# Altium integrated library Linear Technology Power Management Power Control.IntLib: 661 symbols (part 17 of 43)
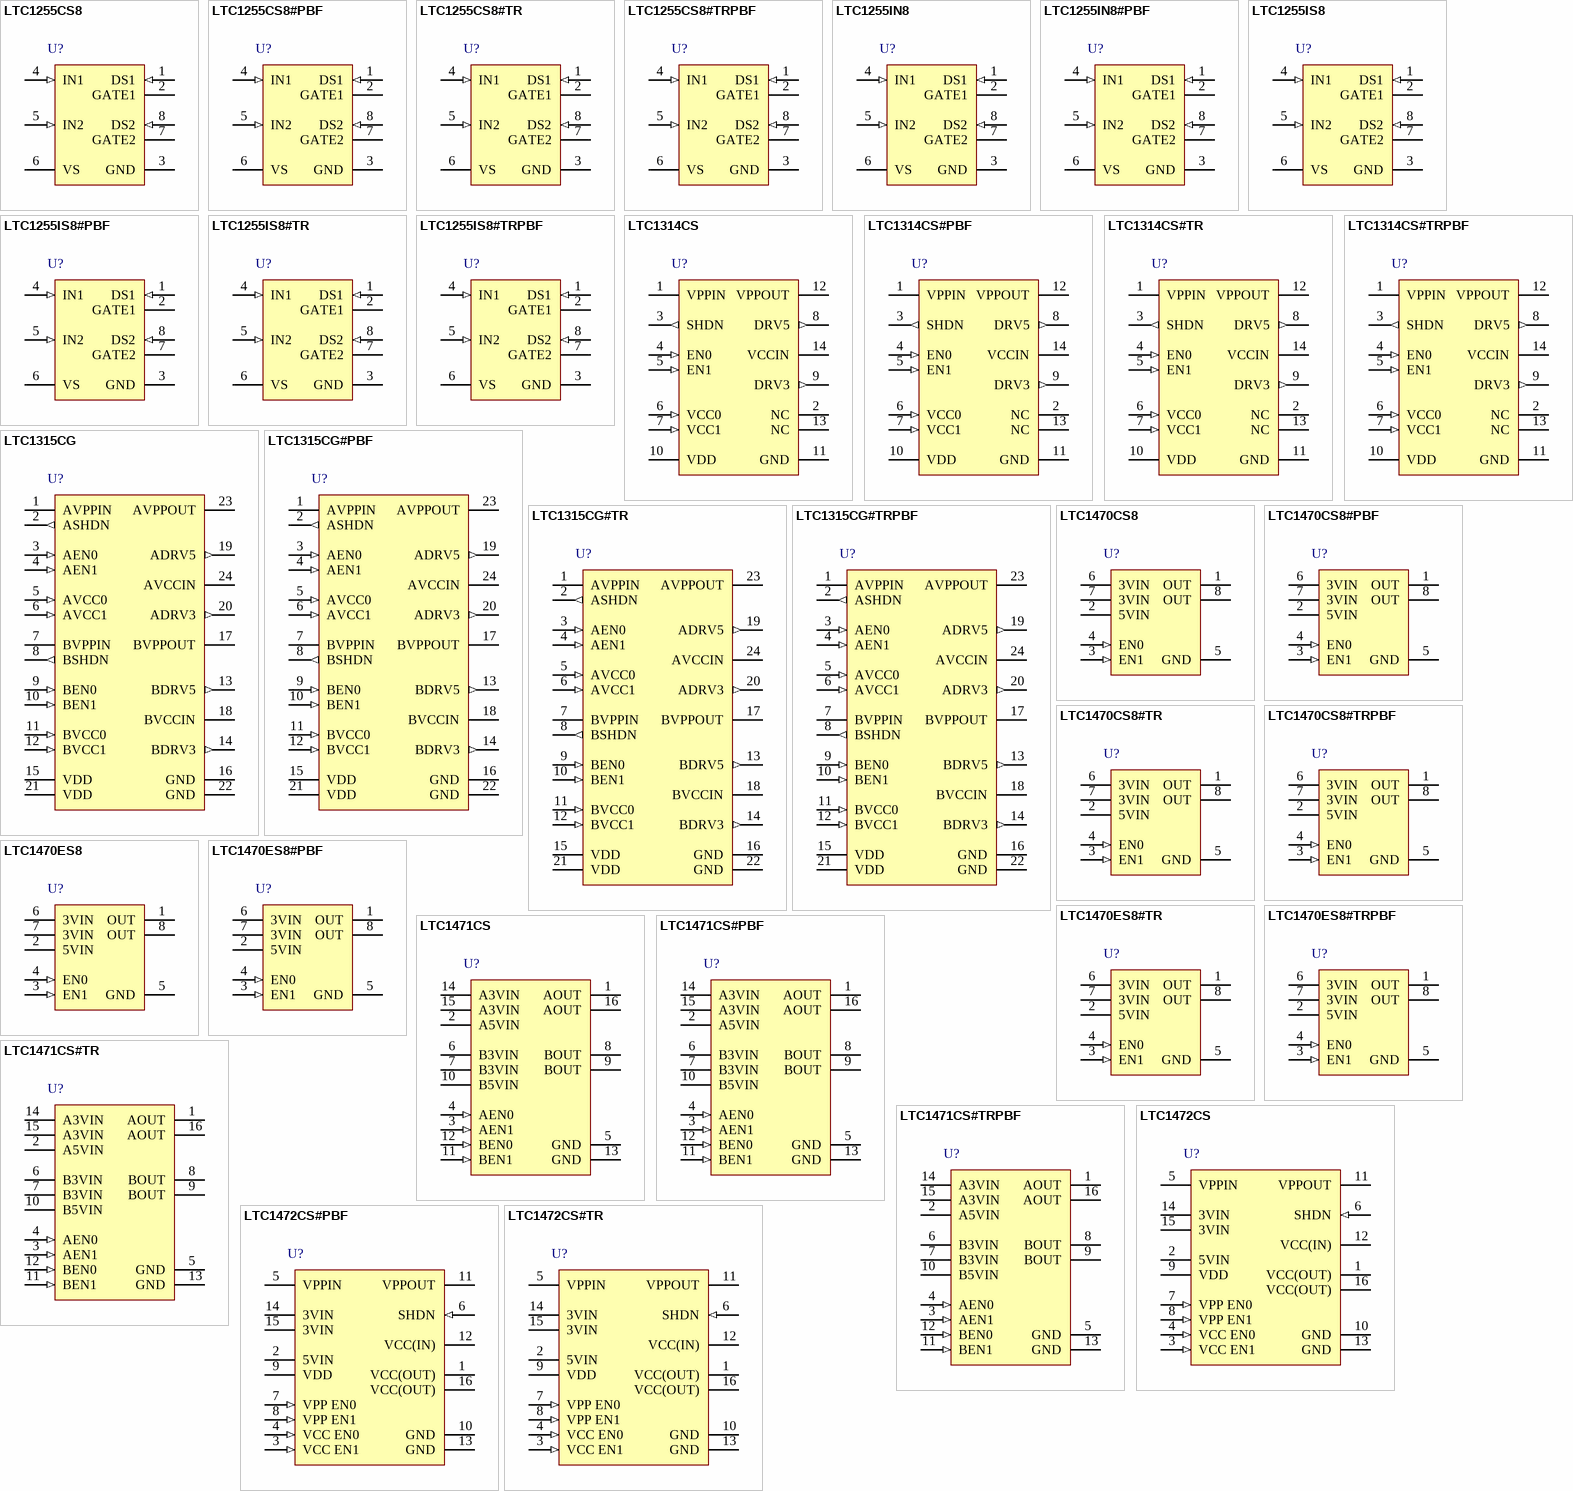
[diagram p35: symbols LTC1255CS8 to LTC1472CS#TR]

## LTC1471CS#TRPBF
designator U?
Fully Integrated VCC Switch with SafeSlot Protection, 2.7 to 5.25 V Vin, 16-pin SOP (S-16), 0 to 70 degC, Pb-Free, Tape and Reel; Manufacturer: Linear Technology; PartNumber: LTC1471CS#TRPBF; DatasheetVersion: Rev. A; PackageVersion: Rev. G, 05/2012; PackageReference: S-16; PackageDescription: 16-Pin Plastic Small Outline, Body 9.9 x 3.9 mm, Pitch 1.27 mm; Supplier 1: Digi-Key; Supplier Part Number 1: LTC1471CS#TRPBF-ND; Supplier 2: Newark; Supplier Part Number 2: 56M1455; Packing: Tape and Reel; RoHS: TRUE; Mounting Technology: Surface Mount; ComponentLink1Description: Manufacturer URL; ComponentLink1URL: http://www.linear.com/; ComponentLink2Description: Datasheet; ComponentLink2URL: http://cds.linear.com/docs/en/datasheet/14701fa.pdf; ComponentLink3Description: Package Specification; ComponentLink3URL: http://cds.linear.com/docs/en/packaging/S16%2005-08-1610%20Rev%20G.pdf
footprint LT-S-16_N (SOP, 16-Leads, Body 10x4mm, Pitch 1.27mm, IPC Medium Density)
footprint LT-S-16_L (SOP, 16-Leads, Body 10x4mm, Pitch 1.27mm, IPC High Density)
footprint LT-S-16_M (SOP, 16-Leads, Body 10x4mm, Pitch 1.27mm, IPC Low Density)
pins: 1 AOUT (power) "Output Pins. The outputs of the LTC1471 are switched between three operating states: OFF, 3.3V and 5V. These pins are protected against accidental short circuits to ground by SafeSlot current limit circuitry which protects (See Datasheet)", 2 A5VIN (power) "5V Input Supply Pins. The 5VIN supply pins serve two purposes. The first purpose is as the power supply input for the 5V NMOS switches. The second purpose is to provide power for the input, gate drive, and protection (See Datasheet)", 3 AEN1 (in) "Enable Inputs. The enable inputs are designed to interface directly with industry standard PCMCIA controllers and are high impedance CMOS gates with ESD protection diodes to ground, and should not be forced above 5VIN or (See Datasheet)", 4 AEN0 (in) "Enable Inputs. The enable inputs are designed to interface directly with industry standard PCMCIA controllers and are high impedance CMOS gates with ESD protection diodes to ground, and should not be forced above 5VIN or (See Datasheet)", 5 GND (power) "Ground Connections.", 6 B3VIN (power) "3V Input Supply Pins. The 3VIN supply pins serve as the power supply input for the 3.3V switches. These pins do not not provide any power to the internal control circuitry, and therefore, do not consume any power when (See Datasheet)", 7 B3VIN (power) "3V Input Supply Pins. The 3VIN supply pins serve as the power supply input for the 3.3V switches. These pins do not not provide any power to the internal control circuitry, and therefore, do not consume any power when (See Datasheet)", 8 BOUT (power) "Output Pins. The outputs of the LTC1471 are switched between three operating states: OFF, 3.3V and 5V. These pins are protected against accidental short circuits to ground by SafeSlot current limit circuitry which protects (See Datasheet)", 9 BOUT (power) "Output Pins. The outputs of the LTC1471 are switched between three operating states: OFF, 3.3V and 5V. These pins are protected against accidental short circuits to ground by SafeSlot current limit circuitry which protects (See Datasheet)", 10 B5VIN (power) "5V Input Supply Pins. The 5VIN supply pins serve two purposes. The first purpose is as the power supply input for the 5V NMOS switches. The second purpose is to provide power for the input, gate drive, and protection (See Datasheet)", 11 BEN1 (in) "Enable Inputs. The enable inputs are designed to interface directly with industry standard PCMCIA controllers and are high impedance CMOS gates with ESD protection diodes to ground, and should not be forced above 5VIN or (See Datasheet)", 12 BEN0 (in) "Enable Inputs. The enable inputs are designed to interface directly with industry standard PCMCIA controllers and are high impedance CMOS gates with ESD protection diodes to ground, and should not be forced above 5VIN or (See Datasheet)", 13 GND (power) "Ground Connections.", 14 A3VIN (power) "3V Input Supply Pins. The 3VIN supply pins serve as the power supply input for the 3.3V switches. These pins do not not provide any power to the internal control circuitry, and therefore, do not consume any power when (See Datasheet)", 15 A3VIN (power) "3V Input Supply Pins. The 3VIN supply pins serve as the power supply input for the 3.3V switches. These pins do not not provide any power to the internal control circuitry, and therefore, do not consume any power when (See Datasheet)", 16 AOUT (power) "Output Pins. The outputs of the LTC1471 are switched between three operating states: OFF, 3.3V and 5V. These pins are protected against accidental short circuits to ground by SafeSlot current limit circuitry which protects (See Datasheet)"

## LTC1472CS
designator U?
Switch Matrix with SafeSlot Protection, 2.7 to 5.25 V Vin, 16-pin SOP (S-16), 0 to 70 degC; Manufacturer: Linear Technology; PartNumber: LTC1472CS; DatasheetVersion: Rev. A; PackageVersion: Rev. G, 05/2012; PackageReference: S-16; PackageDescription: 16-Pin Plastic Small Outline, Body 9.9 x 3.9 mm, Pitch 1.27 mm; Supplier 1: Digi-Key; Supplier Part Number 1: LTC1472CS-ND; Supplier 2: Newark; Supplier Part Number 2: 56M1456; RoHS: FALSE; Mounting Technology: Surface Mount; ComponentLink1Description: Manufacturer URL; ComponentLink1URL: http://www.linear.com/; ComponentLink2Description: Datasheet; ComponentLink2URL: http://cds.linear.com/docs/en/datasheet/1472fa.pdf; ComponentLink3Description: Package Specification; ComponentLink3URL: http://cds.linear.com/docs/en/packaging/S16%2005-08-1610%20Rev%20G.pdf
footprint LT-S-16_N (SOP, 16-Leads, Body 10x4mm, Pitch 1.27mm, IPC Medium Density)
footprint LT-S-16_L (SOP, 16-Leads, Body 10x4mm, Pitch 1.27mm, IPC High Density)
footprint LT-S-16_M (SOP, 16-Leads, Body 10x4mm, Pitch 1.27mm, IPC Low Density)
pins: 1 VCC(OUT) (power) "The VCC output of the LTC1472 is switched between the three operating states: OFF, 3.3V, and 5V. The VPP output is switched between four operating states: 0, VCC, 12V and Hi-Z. Both pins are protected against accidental (See Datasheet)", 2 5VIN (power) "The 5VIN supply pin serves two purposes. The first purpose is as the power supply input for the 5V NMOS switch. The second purpose is to provide power for the input, gate drive and protection circuitry for both the 3.3V and (See Datasheet)", 3 VCC EN1 (in) "The two VCC and two VPP Enable inputs are designed to interface directly with industry standard PCMCIA controllers. They are high impedance CMOS gates with ESD protection diodes to ground, and should not be forced above 5VIN (See Datasheet)", 4 VCC EN0 (in) "The two VCC and two VPP Enable inputs are designed to interface directly with industry standard PCMCIA controllers. They are high impedance CMOS gates with ESD protection diodes to ground, and should not be forced above 5VIN (See Datasheet)", 5 VPPIN (power) "The VPPIN supply pin serves two purposes. The first purpose is to provide power and gate drive for the VPPIN-VPPOUT switch. The second purpose is to provide optional 12V gate drive for the VCC(IN)-VPPOUT switch. If, however, (See Datasheet)", 6 SHDN (in) "The LTC1472 is designed to operate without continuous 12V power. The gates of the VCC NMOS switches are powered by charge pumps from the 5VIN supply, and the gates of the VPP NMOS switches are powered by charge pumps powered (See Datasheet)", 7 VPP EN0 (in) "The two VCC and two VPP Enable inputs are designed to interface directly with industry standard PCMCIA controllers. They are high impedance CMOS gates with ESD protection diodes to ground, and should not be forced above 5VIN (See Datasheet)", 8 VPP EN1 (in) "The two VCC and two VPP Enable inputs are designed to interface directly with industry standard PCMCIA controllers. They are high impedance CMOS gates with ESD protection diodes to ground, and should not be forced above 5VIN (See Datasheet)", 9 VDD (power) "The VDD pin provides power for the input, charge pump and control circuitry for the VPP section of the LTC1472 and therefore must be continuously powered. The standby quiescent current is typically 0.1uA when the VPPOUT pin (See Datasheet)", 10 GND (power), 11 VPPOUT (power) "The VCC output of the LTC1472 is switched between the three operating states: OFF, 3.3V, and 5V. The VPP output is switched between four operating states: 0, VCC, 12V and Hi-Z. Both pins are protected against accidental (See Datasheet)", 12 VCC(IN) (power) "The VCC(IN) supply pin is typically connected directly to the VCC(OUT) pin from the VCC switch section of the LTC1472. It can also be connected directly to a 3.3V or 5V power supply if desired. This supply pin does not (See Datasheet)", 13 GND (power), 14 3VIN (power) "The 3VIN supply pin serves as the power supply input for the 3.3V switch. This pin does not provide any power to the internal control circuitry and therefore does not consume any power when unloaded or turned off.", 15 3VIN (power) "The 3VIN supply pin serves as the power supply input for the 3.3V switch. This pin does not provide any power to the internal control circuitry and therefore does not consume any power when unloaded or turned off.", 16 VCC(OUT) (power) "The VCC output of the LTC1472 is switched between the three operating states: OFF, 3.3V, and 5V. The VPP output is switched between four operating states: 0, VCC, 12V and Hi-Z. Both pins are protected against accidental (See Datasheet)"

## LTC1472CS#PBF
designator U?
Switch Matrix with SafeSlot Protection, 2.7 to 5.25 V Vin, 16-pin SOP (S-16), 0 to 70 degC, Pb-Free; Manufacturer: Linear Technology; PartNumber: LTC1472CS#PBF; DatasheetVersion: Rev. A; PackageVersion: Rev. G, 05/2012; PackageReference: S-16; PackageDescription: 16-Pin Plastic Small Outline, Body 9.9 x 3.9 mm, Pitch 1.27 mm; Supplier 1: Digi-Key; Supplier Part Number 1: LTC1472CS#PBF-ND; Supplier 2: Farnell; Supplier Part Number 2: 1273515; Supplier 3: Newark; Supplier Part Number 3: 56M1457; RoHS: TRUE; Mounting Technology: Surface Mount; ComponentLink1Description: Manufacturer URL; ComponentLink1URL: http://www.linear.com/; ComponentLink2Description: Datasheet; ComponentLink2URL: http://cds.linear.com/docs/en/datasheet/1472fa.pdf; ComponentLink3Description: Package Specification; ComponentLink3URL: http://cds.linear.com/docs/en/packaging/S16%2005-08-1610%20Rev%20G.pdf
footprint LT-S-16_N (SOP, 16-Leads, Body 10x4mm, Pitch 1.27mm, IPC Medium Density)
footprint LT-S-16_L (SOP, 16-Leads, Body 10x4mm, Pitch 1.27mm, IPC High Density)
footprint LT-S-16_M (SOP, 16-Leads, Body 10x4mm, Pitch 1.27mm, IPC Low Density)
pins: 1 VCC(OUT) (power) "The VCC output of the LTC1472 is switched between the three operating states: OFF, 3.3V, and 5V. The VPP output is switched between four operating states: 0, VCC, 12V and Hi-Z. Both pins are protected against accidental (See Datasheet)", 2 5VIN (power) "The 5VIN supply pin serves two purposes. The first purpose is as the power supply input for the 5V NMOS switch. The second purpose is to provide power for the input, gate drive and protection circuitry for both the 3.3V and (See Datasheet)", 3 VCC EN1 (in) "The two VCC and two VPP Enable inputs are designed to interface directly with industry standard PCMCIA controllers. They are high impedance CMOS gates with ESD protection diodes to ground, and should not be forced above 5VIN (See Datasheet)", 4 VCC EN0 (in) "The two VCC and two VPP Enable inputs are designed to interface directly with industry standard PCMCIA controllers. They are high impedance CMOS gates with ESD protection diodes to ground, and should not be forced above 5VIN (See Datasheet)", 5 VPPIN (power) "The VPPIN supply pin serves two purposes. The first purpose is to provide power and gate drive for the VPPIN-VPPOUT switch. The second purpose is to provide optional 12V gate drive for the VCC(IN)-VPPOUT switch. If, however, (See Datasheet)", 6 SHDN (in) "The LTC1472 is designed to operate without continuous 12V power. The gates of the VCC NMOS switches are powered by charge pumps from the 5VIN supply, and the gates of the VPP NMOS switches are powered by charge pumps powered (See Datasheet)", 7 VPP EN0 (in) "The two VCC and two VPP Enable inputs are designed to interface directly with industry standard PCMCIA controllers. They are high impedance CMOS gates with ESD protection diodes to ground, and should not be forced above 5VIN (See Datasheet)", 8 VPP EN1 (in) "The two VCC and two VPP Enable inputs are designed to interface directly with industry standard PCMCIA controllers. They are high impedance CMOS gates with ESD protection diodes to ground, and should not be forced above 5VIN (See Datasheet)", 9 VDD (power) "The VDD pin provides power for the input, charge pump and control circuitry for the VPP section of the LTC1472 and therefore must be continuously powered. The standby quiescent current is typically 0.1uA when the VPPOUT pin (See Datasheet)", 10 GND (power), 11 VPPOUT (power) "The VCC output of the LTC1472 is switched between the three operating states: OFF, 3.3V, and 5V. The VPP output is switched between four operating states: 0, VCC, 12V and Hi-Z. Both pins are protected against accidental (See Datasheet)", 12 VCC(IN) (power) "The VCC(IN) supply pin is typically connected directly to the VCC(OUT) pin from the VCC switch section of the LTC1472. It can also be connected directly to a 3.3V or 5V power supply if desired. This supply pin does not (See Datasheet)", 13 GND (power), 14 3VIN (power) "The 3VIN supply pin serves as the power supply input for the 3.3V switch. This pin does not provide any power to the internal control circuitry and therefore does not consume any power when unloaded or turned off.", 15 3VIN (power) "The 3VIN supply pin serves as the power supply input for the 3.3V switch. This pin does not provide any power to the internal control circuitry and therefore does not consume any power when unloaded or turned off.", 16 VCC(OUT) (power) "The VCC output of the LTC1472 is switched between the three operating states: OFF, 3.3V, and 5V. The VPP output is switched between four operating states: 0, VCC, 12V and Hi-Z. Both pins are protected against accidental (See Datasheet)"

## LTC1472CS#TR
designator U?
Switch Matrix with SafeSlot Protection, 2.7 to 5.25 V Vin, 16-pin SOP (S-16), 0 to 70 degC, Tape and Reel; Manufacturer: Linear Technology; PartNumber: LTC1472CS#TR; DatasheetVersion: Rev. A; PackageVersion: Rev. G, 05/2012; PackageReference: S-16; PackageDescription: 16-Pin Plastic Small Outline, Body 9.9 x 3.9 mm, Pitch 1.27 mm; Supplier 1: Digi-Key; Supplier Part Number 1: LTC1472CS#TR-ND; Supplier 2: Newark; Supplier Part Number 2: 56M1458; Packing: Tape and Reel; RoHS: FALSE; Mounting Technology: Surface Mount; ComponentLink1Description: Manufacturer URL; ComponentLink1URL: http://www.linear.com/; ComponentLink2Description: Datasheet; ComponentLink2URL: http://cds.linear.com/docs/en/datasheet/1472fa.pdf; ComponentLink3Description: Package Specification; ComponentLink3URL: http://cds.linear.com/docs/en/packaging/S16%2005-08-1610%20Rev%20G.pdf
footprint LT-S-16_N (SOP, 16-Leads, Body 10x4mm, Pitch 1.27mm, IPC Medium Density)
footprint LT-S-16_L (SOP, 16-Leads, Body 10x4mm, Pitch 1.27mm, IPC High Density)
footprint LT-S-16_M (SOP, 16-Leads, Body 10x4mm, Pitch 1.27mm, IPC Low Density)
pins: 1 VCC(OUT) (power) "The VCC output of the LTC1472 is switched between the three operating states: OFF, 3.3V, and 5V. The VPP output is switched between four operating states: 0, VCC, 12V and Hi-Z. Both pins are protected against accidental (See Datasheet)", 2 5VIN (power) "The 5VIN supply pin serves two purposes. The first purpose is as the power supply input for the 5V NMOS switch. The second purpose is to provide power for the input, gate drive and protection circuitry for both the 3.3V and (See Datasheet)", 3 VCC EN1 (in) "The two VCC and two VPP Enable inputs are designed to interface directly with industry standard PCMCIA controllers. They are high impedance CMOS gates with ESD protection diodes to ground, and should not be forced above 5VIN (See Datasheet)", 4 VCC EN0 (in) "The two VCC and two VPP Enable inputs are designed to interface directly with industry standard PCMCIA controllers. They are high impedance CMOS gates with ESD protection diodes to ground, and should not be forced above 5VIN (See Datasheet)", 5 VPPIN (power) "The VPPIN supply pin serves two purposes. The first purpose is to provide power and gate drive for the VPPIN-VPPOUT switch. The second purpose is to provide optional 12V gate drive for the VCC(IN)-VPPOUT switch. If, however, (See Datasheet)", 6 SHDN (in) "The LTC1472 is designed to operate without continuous 12V power. The gates of the VCC NMOS switches are powered by charge pumps from the 5VIN supply, and the gates of the VPP NMOS switches are powered by charge pumps powered (See Datasheet)", 7 VPP EN0 (in) "The two VCC and two VPP Enable inputs are designed to interface directly with industry standard PCMCIA controllers. They are high impedance CMOS gates with ESD protection diodes to ground, and should not be forced above 5VIN (See Datasheet)", 8 VPP EN1 (in) "The two VCC and two VPP Enable inputs are designed to interface directly with industry standard PCMCIA controllers. They are high impedance CMOS gates with ESD protection diodes to ground, and should not be forced above 5VIN (See Datasheet)", 9 VDD (power) "The VDD pin provides power for the input, charge pump and control circuitry for the VPP section of the LTC1472 and therefore must be continuously powered. The standby quiescent current is typically 0.1uA when the VPPOUT pin (See Datasheet)", 10 GND (power), 11 VPPOUT (power) "The VCC output of the LTC1472 is switched between the three operating states: OFF, 3.3V, and 5V. The VPP output is switched between four operating states: 0, VCC, 12V and Hi-Z. Both pins are protected against accidental (See Datasheet)", 12 VCC(IN) (power) "The VCC(IN) supply pin is typically connected directly to the VCC(OUT) pin from the VCC switch section of the LTC1472. It can also be connected directly to a 3.3V or 5V power supply if desired. This supply pin does not (See Datasheet)", 13 GND (power), 14 3VIN (power) "The 3VIN supply pin serves as the power supply input for the 3.3V switch. This pin does not provide any power to the internal control circuitry and therefore does not consume any power when unloaded or turned off.", 15 3VIN (power) "The 3VIN supply pin serves as the power supply input for the 3.3V switch. This pin does not provide any power to the internal control circuitry and therefore does not consume any power when unloaded or turned off.", 16 VCC(OUT) (power) "The VCC output of the LTC1472 is switched between the three operating states: OFF, 3.3V, and 5V. The VPP output is switched between four operating states: 0, VCC, 12V and Hi-Z. Both pins are protected against accidental (See Datasheet)"

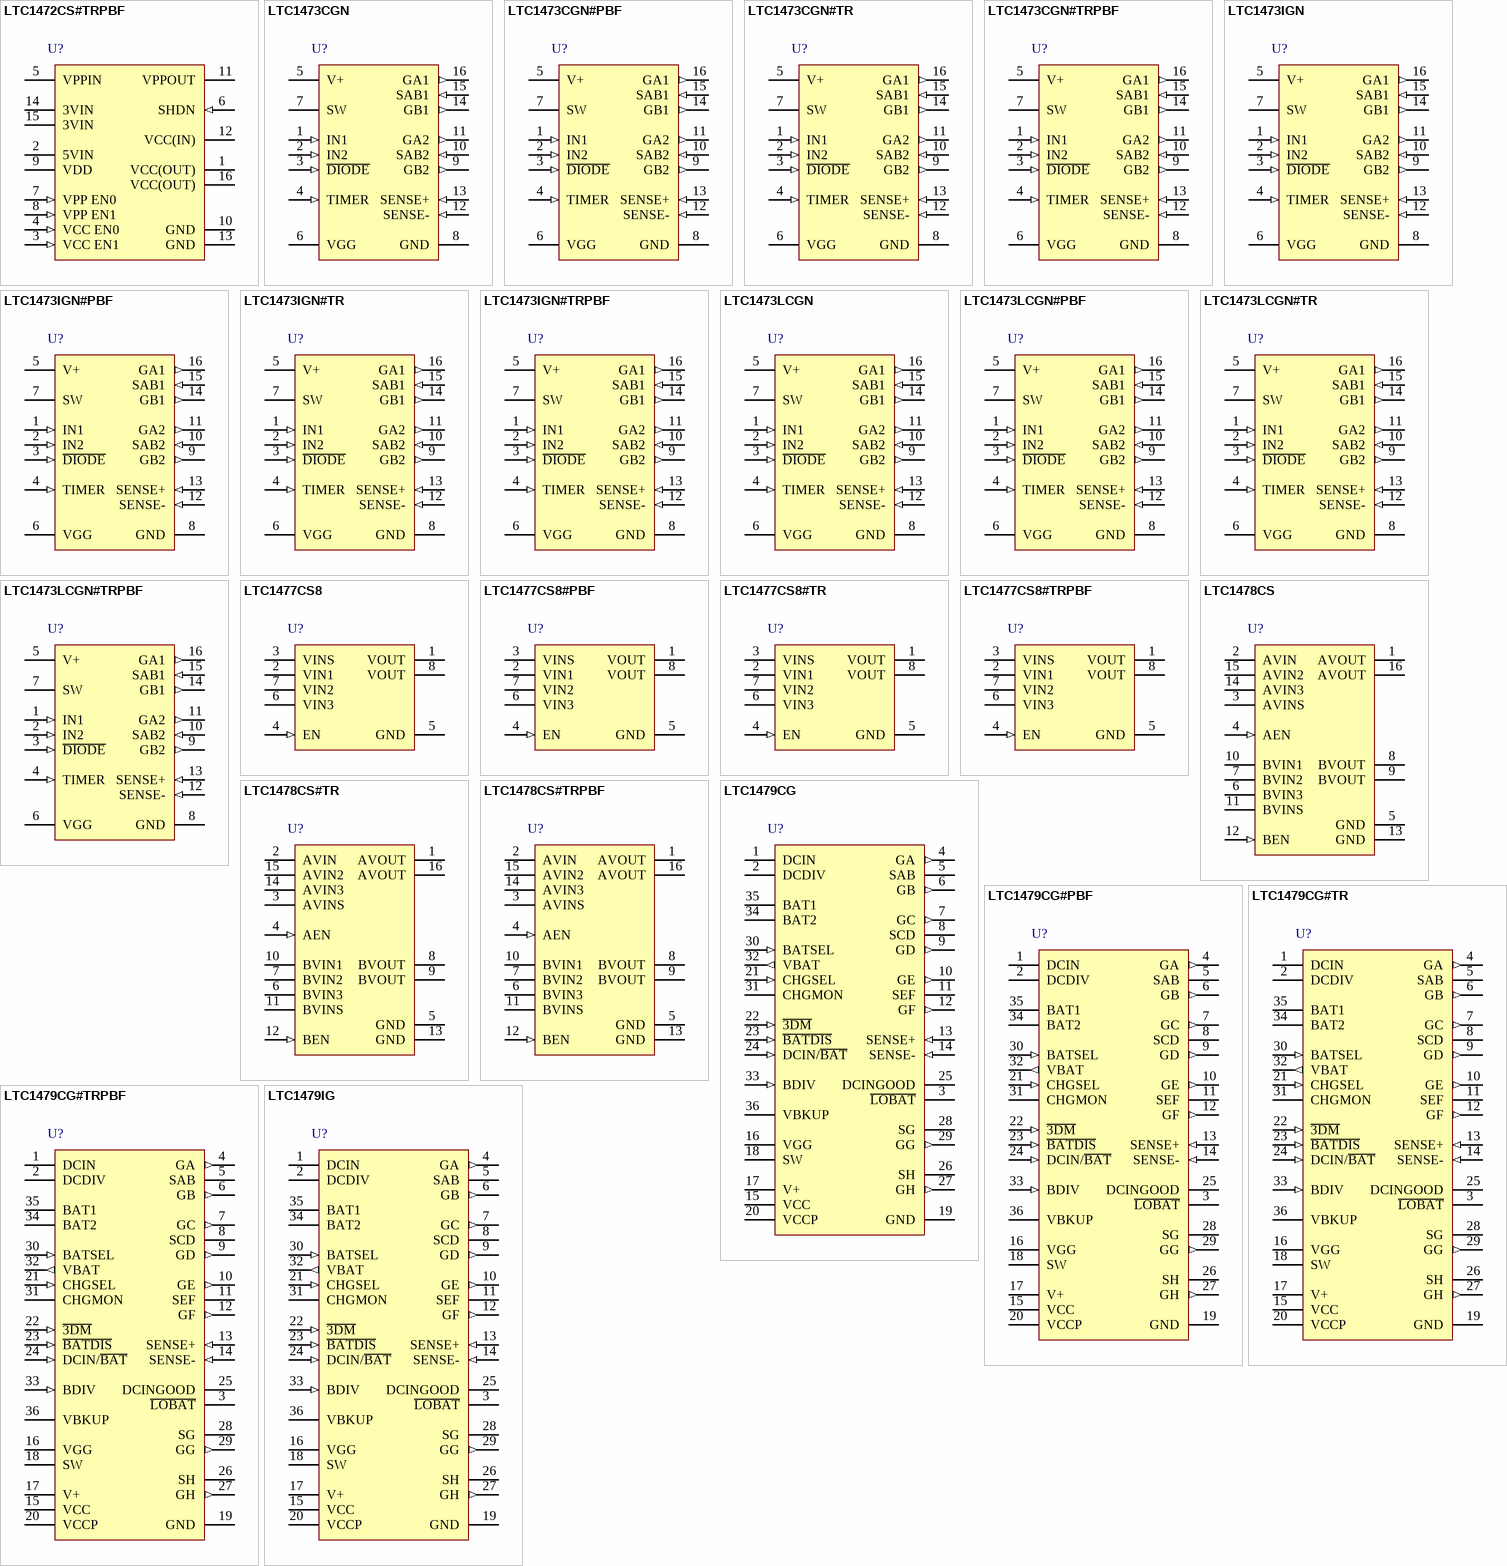
[diagram p8: symbols LTC1472CS#TRPBF to LTC1479IG]

## LTC1472CS#TRPBF
designator U?
Switch Matrix with SafeSlot Protection, 2.7 to 5.25 V Vin, 16-pin SOP (S-16), 0 to 70 degC, Pb-Free, Tape and Reel; Manufacturer: Linear Technology; PartNumber: LTC1472CS#TRPBF; DatasheetVersion: Rev. A; PackageVersion: Rev. G, 05/2012; PackageReference: S-16; PackageDescription: 16-Pin Plastic Small Outline, Body 9.9 x 3.9 mm, Pitch 1.27 mm; Supplier 1: Digi-Key; Supplier Part Number 1: LTC1472CS#TRPBF-ND; Supplier 2: Newark; Supplier Part Number 2: 56M1459; Packing: Tape and Reel; RoHS: TRUE; Mounting Technology: Surface Mount; ComponentLink1Description: Manufacturer URL; ComponentLink1URL: http://www.linear.com/; ComponentLink2Description: Datasheet; ComponentLink2URL: http://cds.linear.com/docs/en/datasheet/1472fa.pdf; ComponentLink3Description: Package Specification; ComponentLink3URL: http://cds.linear.com/docs/en/packaging/S16%2005-08-1610%20Rev%20G.pdf
footprint LT-S-16_N (SOP, 16-Leads, Body 10x4mm, Pitch 1.27mm, IPC Medium Density)
footprint LT-S-16_L (SOP, 16-Leads, Body 10x4mm, Pitch 1.27mm, IPC High Density)
footprint LT-S-16_M (SOP, 16-Leads, Body 10x4mm, Pitch 1.27mm, IPC Low Density)
pins: 1 VCC(OUT) (power) "The VCC output of the LTC1472 is switched between the three operating states: OFF, 3.3V, and 5V. The VPP output is switched between four operating states: 0, VCC, 12V and Hi-Z. Both pins are protected against accidental (See Datasheet)", 2 5VIN (power) "The 5VIN supply pin serves two purposes. The first purpose is as the power supply input for the 5V NMOS switch. The second purpose is to provide power for the input, gate drive and protection circuitry for both the 3.3V and (See Datasheet)", 3 VCC EN1 (in) "The two VCC and two VPP Enable inputs are designed to interface directly with industry standard PCMCIA controllers. They are high impedance CMOS gates with ESD protection diodes to ground, and should not be forced above 5VIN (See Datasheet)", 4 VCC EN0 (in) "The two VCC and two VPP Enable inputs are designed to interface directly with industry standard PCMCIA controllers. They are high impedance CMOS gates with ESD protection diodes to ground, and should not be forced above 5VIN (See Datasheet)", 5 VPPIN (power) "The VPPIN supply pin serves two purposes. The first purpose is to provide power and gate drive for the VPPIN-VPPOUT switch. The second purpose is to provide optional 12V gate drive for the VCC(IN)-VPPOUT switch. If, however, (See Datasheet)", 6 SHDN (in) "The LTC1472 is designed to operate without continuous 12V power. The gates of the VCC NMOS switches are powered by charge pumps from the 5VIN supply, and the gates of the VPP NMOS switches are powered by charge pumps powered (See Datasheet)", 7 VPP EN0 (in) "The two VCC and two VPP Enable inputs are designed to interface directly with industry standard PCMCIA controllers. They are high impedance CMOS gates with ESD protection diodes to ground, and should not be forced above 5VIN (See Datasheet)", 8 VPP EN1 (in) "The two VCC and two VPP Enable inputs are designed to interface directly with industry standard PCMCIA controllers. They are high impedance CMOS gates with ESD protection diodes to ground, and should not be forced above 5VIN (See Datasheet)", 9 VDD (power) "The VDD pin provides power for the input, charge pump and control circuitry for the VPP section of the LTC1472 and therefore must be continuously powered. The standby quiescent current is typically 0.1uA when the VPPOUT pin (See Datasheet)", 10 GND (power), 11 VPPOUT (power) "The VCC output of the LTC1472 is switched between the three operating states: OFF, 3.3V, and 5V. The VPP output is switched between four operating states: 0, VCC, 12V and Hi-Z. Both pins are protected against accidental (See Datasheet)", 12 VCC(IN) (power) "The VCC(IN) supply pin is typically connected directly to the VCC(OUT) pin from the VCC switch section of the LTC1472. It can also be connected directly to a 3.3V or 5V power supply if desired. This supply pin does not (See Datasheet)", 13 GND (power), 14 3VIN (power) "The 3VIN supply pin serves as the power supply input for the 3.3V switch. This pin does not provide any power to the internal control circuitry and therefore does not consume any power when unloaded or turned off.", 15 3VIN (power) "The 3VIN supply pin serves as the power supply input for the 3.3V switch. This pin does not provide any power to the internal control circuitry and therefore does not consume any power when unloaded or turned off.", 16 VCC(OUT) (power) "The VCC output of the LTC1472 is switched between the three operating states: OFF, 3.3V, and 5V. The VPP output is switched between four operating states: 0, VCC, 12V and Hi-Z. Both pins are protected against accidental (See Datasheet)"

## LTC1473CGN
designator U?
Dual, High Gate Drive, 4.75 to 30 V Vin, 16-pin SOP (GN-16), 0 to 70 degC; Manufacturer: Linear Technology; PartNumber: LTC1473CGN; Ideal Diode: Dual, External, N-Channel; DatasheetVersion: Rev. A; PackageVersion: Rev. B, 03/2012; PackageReference: GN-16; PackageDescription: 16-Pin Plastic SSOP, Body 4.9 x 3.9 mm, Pitch 0.635 mm; Supplier 1: Digi-Key; Supplier Part Number 1: LTC1473CGN-ND; Supplier 2: Newark; Supplier Part Number 2: 56M1460; RoHS: FALSE; Mounting Technology: Surface Mount; ComponentLink1Description: Manufacturer URL; ComponentLink1URL: http://www.linear.com/; ComponentLink2Description: Datasheet; ComponentLink2URL: http://cds.linear.com/docs/en/datasheet/1473fas.pdf; ComponentLink3Description: Package Specification; ComponentLink3URL: http://cds.linear.com/docs/en/packaging/05081641_B_GN16.pdf
footprint LT-GN-16_N (SOP, 16-Leads, Body 5x4mm, Pitch 0.635mm, IPC Medium Density)
footprint LT-GN-16_L (SOP, 16-Leads, Body 5x4mm, Pitch 0.635mm, IPC High Density)
footprint LT-GN-16_M (SOP, 16-Leads, Body 5x4mm, Pitch 0.635mm, IPC Low Density)
pins: 1 IN1 (in) "Logic Input of Gate Drivers GA1 and GB1. IN1 is disabled when IN2 is high or D\I\O\D\E\ is low.", 2 IN2 (in) "Logic Input of Gate Drivers GA2 and GB2. IN2 is disabled when IN1 is high or D\I\O\D\E\ is low.", 3 ~{DIODE} (in) ""2-Diode Mode" Logic Input. D\I\O\D\E\ overrides IN1 and IN2 by forcing the two back-to-back external N-channel MOSFET switches to mimic two diodes.", 4 TIMER (in) "Fault Timer. A capacitor connected from this pin to GND programs the time the MOSFET switches are allowed to be in current limit. To disable this function, Pin 4 can be grounded.", 5 V+ (power) "Power Supply. Bypass this pin with at least a 1uF capacitor.", 6 VGG (power) "Gate Driver Supply. This high voltage supply is intended only for driving the internal micropower gate drive circuitry. Do not load this pin with any external circuitry. Bypass this pin with at least 1uF.", 7 SW "Open Drain of an Internal N-Channel MOSFET Switch. This pin drives the bottom of the VGG switching regulator inductor which is connected between this pin and the V+ pin.", 8 GND (power) "Ground.", 9 GB2 (out) "Switch Gate Drivers. GA2 and GB2 drive the gates of the second back-to-back external N-channel switches.", 10 SAB2 (in) "Source Return. The SAB2 pin is connected to the sources of SW A2 and SW B2. A small pull-down current source returns this node to 0V when the switches are turned off.", 11 GA2 (out) "Switch Gate Drivers. GA2 and GB2 drive the gates of the second back-to-back external N-channel switches.", 12 SENSE- (in) "Inrush Current Input. This pin should be connected directly to the bottom (output side) of the low valued resistor in series with the two input power selector switch pairs, SW A1/B1 and SW A2/B2, for detecting and (See Datasheet)", 13 SENSE+ (in) "Inrush Current Input. This pin should be connected directly to the top (switch side) of the low valued resistor in series with the two input power selector switch pairs, SW A1/B1 and SW A2/B2, for detecting and controlling (See Datasheet)", 14 GB1 (out) "Switch Gate Drivers. GA1 and GB1 drive the gates of the first back-to-back external N-channel switches.", 15 SAB1 (in) "Source Return. The SAB1 pin is connected to the sources of SW A1 and SW B1. A small pull-down current source returns this node to 0V when the switches are turned off.", 16 GA1 (out) "Switch Gate Drivers. GA1 and GB1 drive the gates of the first back-to-back external N-channel switches."

## LTC1473CGN#PBF
designator U?
Dual, High Gate Drive, 4.75 to 30 V Vin, 16-pin SOP (GN-16), 0 to 70 degC, Pb-Free; Manufacturer: Linear Technology; PartNumber: LTC1473CGN#PBF; Ideal Diode: Dual, External, N-Channel; DatasheetVersion: Rev. A; PackageVersion: Rev. B, 03/2012; PackageReference: GN-16; PackageDescription: 16-Pin Plastic SSOP, Body 4.9 x 3.9 mm, Pitch 0.635 mm; Supplier 1: Digi-Key; Supplier Part Number 1: LTC1473CGN#PBF-ND; Supplier 2: Farnell; Supplier Part Number 2: 1273517; Supplier 3: Newark; Supplier Part Number 3: 56M1461; RoHS: TRUE; Mounting Technology: Surface Mount; ComponentLink1Description: Manufacturer URL; ComponentLink1URL: http://www.linear.com/; ComponentLink2Description: Datasheet; ComponentLink2URL: http://cds.linear.com/docs/en/datasheet/1473fas.pdf; ComponentLink3Description: Package Specification; ComponentLink3URL: http://cds.linear.com/docs/en/packaging/05081641_B_GN16.pdf
footprint LT-GN-16_N (SOP, 16-Leads, Body 5x4mm, Pitch 0.635mm, IPC Medium Density)
footprint LT-GN-16_L (SOP, 16-Leads, Body 5x4mm, Pitch 0.635mm, IPC High Density)
footprint LT-GN-16_M (SOP, 16-Leads, Body 5x4mm, Pitch 0.635mm, IPC Low Density)
pins: 1 IN1 (in) "Logic Input of Gate Drivers GA1 and GB1. IN1 is disabled when IN2 is high or D\I\O\D\E\ is low.", 2 IN2 (in) "Logic Input of Gate Drivers GA2 and GB2. IN2 is disabled when IN1 is high or D\I\O\D\E\ is low.", 3 ~{DIODE} (in) ""2-Diode Mode" Logic Input. D\I\O\D\E\ overrides IN1 and IN2 by forcing the two back-to-back external N-channel MOSFET switches to mimic two diodes.", 4 TIMER (in) "Fault Timer. A capacitor connected from this pin to GND programs the time the MOSFET switches are allowed to be in current limit. To disable this function, Pin 4 can be grounded.", 5 V+ (power) "Power Supply. Bypass this pin with at least a 1uF capacitor.", 6 VGG (power) "Gate Driver Supply. This high voltage supply is intended only for driving the internal micropower gate drive circuitry. Do not load this pin with any external circuitry. Bypass this pin with at least 1uF.", 7 SW "Open Drain of an Internal N-Channel MOSFET Switch. This pin drives the bottom of the VGG switching regulator inductor which is connected between this pin and the V+ pin.", 8 GND (power) "Ground.", 9 GB2 (out) "Switch Gate Drivers. GA2 and GB2 drive the gates of the second back-to-back external N-channel switches.", 10 SAB2 (in) "Source Return. The SAB2 pin is connected to the sources of SW A2 and SW B2. A small pull-down current source returns this node to 0V when the switches are turned off.", 11 GA2 (out) "Switch Gate Drivers. GA2 and GB2 drive the gates of the second back-to-back external N-channel switches.", 12 SENSE- (in) "Inrush Current Input. This pin should be connected directly to the bottom (output side) of the low valued resistor in series with the two input power selector switch pairs, SW A1/B1 and SW A2/B2, for detecting and (See Datasheet)", 13 SENSE+ (in) "Inrush Current Input. This pin should be connected directly to the top (switch side) of the low valued resistor in series with the two input power selector switch pairs, SW A1/B1 and SW A2/B2, for detecting and controlling (See Datasheet)", 14 GB1 (out) "Switch Gate Drivers. GA1 and GB1 drive the gates of the first back-to-back external N-channel switches.", 15 SAB1 (in) "Source Return. The SAB1 pin is connected to the sources of SW A1 and SW B1. A small pull-down current source returns this node to 0V when the switches are turned off.", 16 GA1 (out) "Switch Gate Drivers. GA1 and GB1 drive the gates of the first back-to-back external N-channel switches."

## LTC1473CGN#TR
designator U?
Dual, High Gate Drive, 4.75 to 30 V Vin, 16-pin SOP (GN-16), 0 to 70 degC, Tape and Reel; Manufacturer: Linear Technology; PartNumber: LTC1473CGN#TR; Ideal Diode: Dual, External, N-Channel; DatasheetVersion: Rev. A; PackageVersion: Rev. B, 03/2012; PackageReference: GN-16; PackageDescription: 16-Pin Plastic SSOP, Body 4.9 x 3.9 mm, Pitch 0.635 mm; Supplier 1: Digi-Key; Supplier Part Number 1: LTC1473CGN#TR-ND; Packing: Tape and Reel; RoHS: FALSE; Mounting Technology: Surface Mount; ComponentLink1Description: Manufacturer URL; ComponentLink1URL: http://www.linear.com/; ComponentLink2Description: Datasheet; ComponentLink2URL: http://cds.linear.com/docs/en/datasheet/1473fas.pdf; ComponentLink3Description: Package Specification; ComponentLink3URL: http://cds.linear.com/docs/en/packaging/05081641_B_GN16.pdf
footprint LT-GN-16_N (SOP, 16-Leads, Body 5x4mm, Pitch 0.635mm, IPC Medium Density)
footprint LT-GN-16_L (SOP, 16-Leads, Body 5x4mm, Pitch 0.635mm, IPC High Density)
footprint LT-GN-16_M (SOP, 16-Leads, Body 5x4mm, Pitch 0.635mm, IPC Low Density)
pins: 1 IN1 (in) "Logic Input of Gate Drivers GA1 and GB1. IN1 is disabled when IN2 is high or D\I\O\D\E\ is low.", 2 IN2 (in) "Logic Input of Gate Drivers GA2 and GB2. IN2 is disabled when IN1 is high or D\I\O\D\E\ is low.", 3 ~{DIODE} (in) ""2-Diode Mode" Logic Input. D\I\O\D\E\ overrides IN1 and IN2 by forcing the two back-to-back external N-channel MOSFET switches to mimic two diodes.", 4 TIMER (in) "Fault Timer. A capacitor connected from this pin to GND programs the time the MOSFET switches are allowed to be in current limit. To disable this function, Pin 4 can be grounded.", 5 V+ (power) "Power Supply. Bypass this pin with at least a 1uF capacitor.", 6 VGG (power) "Gate Driver Supply. This high voltage supply is intended only for driving the internal micropower gate drive circuitry. Do not load this pin with any external circuitry. Bypass this pin with at least 1uF.", 7 SW "Open Drain of an Internal N-Channel MOSFET Switch. This pin drives the bottom of the VGG switching regulator inductor which is connected between this pin and the V+ pin.", 8 GND (power) "Ground.", 9 GB2 (out) "Switch Gate Drivers. GA2 and GB2 drive the gates of the second back-to-back external N-channel switches.", 10 SAB2 (in) "Source Return. The SAB2 pin is connected to the sources of SW A2 and SW B2. A small pull-down current source returns this node to 0V when the switches are turned off.", 11 GA2 (out) "Switch Gate Drivers. GA2 and GB2 drive the gates of the second back-to-back external N-channel switches.", 12 SENSE- (in) "Inrush Current Input. This pin should be connected directly to the bottom (output side) of the low valued resistor in series with the two input power selector switch pairs, SW A1/B1 and SW A2/B2, for detecting and (See Datasheet)", 13 SENSE+ (in) "Inrush Current Input. This pin should be connected directly to the top (switch side) of the low valued resistor in series with the two input power selector switch pairs, SW A1/B1 and SW A2/B2, for detecting and controlling (See Datasheet)", 14 GB1 (out) "Switch Gate Drivers. GA1 and GB1 drive the gates of the first back-to-back external N-channel switches.", 15 SAB1 (in) "Source Return. The SAB1 pin is connected to the sources of SW A1 and SW B1. A small pull-down current source returns this node to 0V when the switches are turned off.", 16 GA1 (out) "Switch Gate Drivers. GA1 and GB1 drive the gates of the first back-to-back external N-channel switches."

## LTC1473CGN#TRPBF
designator U?
Dual, High Gate Drive, 4.75 to 30 V Vin, 16-pin SOP (GN-16), 0 to 70 degC, Pb-Free, Tape and Reel; Manufacturer: Linear Technology; PartNumber: LTC1473CGN#TRPBF; Ideal Diode: Dual, External, N-Channel; DatasheetVersion: Rev. A; PackageVersion: Rev. B, 03/2012; PackageReference: GN-16; PackageDescription: 16-Pin Plastic SSOP, Body 4.9 x 3.9 mm, Pitch 0.635 mm; Supplier 1: Digi-Key; Supplier Part Number 1: LTC1473CGN#TRPBF-ND; Supplier 2: Newark; Supplier Part Number 2: 56M1463; Packing: Tape and Reel; RoHS: TRUE; Mounting Technology: Surface Mount; ComponentLink1Description: Manufacturer URL; ComponentLink1URL: http://www.linear.com/; ComponentLink2Description: Datasheet; ComponentLink2URL: http://cds.linear.com/docs/en/datasheet/1473fas.pdf; ComponentLink3Description: Package Specification; ComponentLink3URL: http://cds.linear.com/docs/en/packaging/05081641_B_GN16.pdf
footprint LT-GN-16_N (SOP, 16-Leads, Body 5x4mm, Pitch 0.635mm, IPC Medium Density)
footprint LT-GN-16_L (SOP, 16-Leads, Body 5x4mm, Pitch 0.635mm, IPC High Density)
footprint LT-GN-16_M (SOP, 16-Leads, Body 5x4mm, Pitch 0.635mm, IPC Low Density)
pins: 1 IN1 (in) "Logic Input of Gate Drivers GA1 and GB1. IN1 is disabled when IN2 is high or D\I\O\D\E\ is low.", 2 IN2 (in) "Logic Input of Gate Drivers GA2 and GB2. IN2 is disabled when IN1 is high or D\I\O\D\E\ is low.", 3 ~{DIODE} (in) ""2-Diode Mode" Logic Input. D\I\O\D\E\ overrides IN1 and IN2 by forcing the two back-to-back external N-channel MOSFET switches to mimic two diodes.", 4 TIMER (in) "Fault Timer. A capacitor connected from this pin to GND programs the time the MOSFET switches are allowed to be in current limit. To disable this function, Pin 4 can be grounded.", 5 V+ (power) "Power Supply. Bypass this pin with at least a 1uF capacitor.", 6 VGG (power) "Gate Driver Supply. This high voltage supply is intended only for driving the internal micropower gate drive circuitry. Do not load this pin with any external circuitry. Bypass this pin with at least 1uF.", 7 SW "Open Drain of an Internal N-Channel MOSFET Switch. This pin drives the bottom of the VGG switching regulator inductor which is connected between this pin and the V+ pin.", 8 GND (power) "Ground.", 9 GB2 (out) "Switch Gate Drivers. GA2 and GB2 drive the gates of the second back-to-back external N-channel switches.", 10 SAB2 (in) "Source Return. The SAB2 pin is connected to the sources of SW A2 and SW B2. A small pull-down current source returns this node to 0V when the switches are turned off.", 11 GA2 (out) "Switch Gate Drivers. GA2 and GB2 drive the gates of the second back-to-back external N-channel switches.", 12 SENSE- (in) "Inrush Current Input. This pin should be connected directly to the bottom (output side) of the low valued resistor in series with the two input power selector switch pairs, SW A1/B1 and SW A2/B2, for detecting and (See Datasheet)", 13 SENSE+ (in) "Inrush Current Input. This pin should be connected directly to the top (switch side) of the low valued resistor in series with the two input power selector switch pairs, SW A1/B1 and SW A2/B2, for detecting and controlling (See Datasheet)", 14 GB1 (out) "Switch Gate Drivers. GA1 and GB1 drive the gates of the first back-to-back external N-channel switches.", 15 SAB1 (in) "Source Return. The SAB1 pin is connected to the sources of SW A1 and SW B1. A small pull-down current source returns this node to 0V when the switches are turned off.", 16 GA1 (out) "Switch Gate Drivers. GA1 and GB1 drive the gates of the first back-to-back external N-channel switches."

## LTC1473IGN
designator U?
Dual, High Gate Drive, 4.75 to 30 V Vin, 16-pin SOP (GN-16), -40 to 85 degC; Manufacturer: Linear Technology; PartNumber: LTC1473IGN; Ideal Diode: Dual, External, N-Channel; DatasheetVersion: Rev. A; PackageVersion: Rev. B, 03/2012; PackageReference: GN-16; PackageDescription: 16-Pin Plastic SSOP, Body 4.9 x 3.9 mm, Pitch 0.635 mm; Supplier 1: Digi-Key; Supplier Part Number 1: LTC1473IGN-ND; RoHS: FALSE; Mounting Technology: Surface Mount; ComponentLink1Description: Manufacturer URL; ComponentLink1URL: http://www.linear.com/; ComponentLink2Description: Datasheet; ComponentLink2URL: http://cds.linear.com/docs/en/datasheet/1473fas.pdf; ComponentLink3Description: Package Specification; ComponentLink3URL: http://cds.linear.com/docs/en/packaging/05081641_B_GN16.pdf
footprint LT-GN-16_N (SOP, 16-Leads, Body 5x4mm, Pitch 0.635mm, IPC Medium Density)
footprint LT-GN-16_L (SOP, 16-Leads, Body 5x4mm, Pitch 0.635mm, IPC High Density)
footprint LT-GN-16_M (SOP, 16-Leads, Body 5x4mm, Pitch 0.635mm, IPC Low Density)
pins: 1 IN1 (in) "Logic Input of Gate Drivers GA1 and GB1. IN1 is disabled when IN2 is high or D\I\O\D\E\ is low.", 2 IN2 (in) "Logic Input of Gate Drivers GA2 and GB2. IN2 is disabled when IN1 is high or D\I\O\D\E\ is low.", 3 ~{DIODE} (in) ""2-Diode Mode" Logic Input. D\I\O\D\E\ overrides IN1 and IN2 by forcing the two back-to-back external N-channel MOSFET switches to mimic two diodes.", 4 TIMER (in) "Fault Timer. A capacitor connected from this pin to GND programs the time the MOSFET switches are allowed to be in current limit. To disable this function, Pin 4 can be grounded.", 5 V+ (power) "Power Supply. Bypass this pin with at least a 1uF capacitor.", 6 VGG (power) "Gate Driver Supply. This high voltage supply is intended only for driving the internal micropower gate drive circuitry. Do not load this pin with any external circuitry. Bypass this pin with at least 1uF.", 7 SW "Open Drain of an Internal N-Channel MOSFET Switch. This pin drives the bottom of the VGG switching regulator inductor which is connected between this pin and the V+ pin.", 8 GND (power) "Ground.", 9 GB2 (out) "Switch Gate Drivers. GA2 and GB2 drive the gates of the second back-to-back external N-channel switches.", 10 SAB2 (in) "Source Return. The SAB2 pin is connected to the sources of SW A2 and SW B2. A small pull-down current source returns this node to 0V when the switches are turned off.", 11 GA2 (out) "Switch Gate Drivers. GA2 and GB2 drive the gates of the second back-to-back external N-channel switches.", 12 SENSE- (in) "Inrush Current Input. This pin should be connected directly to the bottom (output side) of the low valued resistor in series with the two input power selector switch pairs, SW A1/B1 and SW A2/B2, for detecting and (See Datasheet)", 13 SENSE+ (in) "Inrush Current Input. This pin should be connected directly to the top (switch side) of the low valued resistor in series with the two input power selector switch pairs, SW A1/B1 and SW A2/B2, for detecting and controlling (See Datasheet)", 14 GB1 (out) "Switch Gate Drivers. GA1 and GB1 drive the gates of the first back-to-back external N-channel switches.", 15 SAB1 (in) "Source Return. The SAB1 pin is connected to the sources of SW A1 and SW B1. A small pull-down current source returns this node to 0V when the switches are turned off.", 16 GA1 (out) "Switch Gate Drivers. GA1 and GB1 drive the gates of the first back-to-back external N-channel switches."

## LTC1473IGN#PBF
designator U?
Dual, High Gate Drive, 4.75 to 30 V Vin, 16-pin SOP (GN-16), -40 to 85 degC, Pb-Free; Manufacturer: Linear Technology; PartNumber: LTC1473IGN#PBF; Ideal Diode: Dual, External, N-Channel; DatasheetVersion: Rev. A; PackageVersion: Rev. B, 03/2012; PackageReference: GN-16; PackageDescription: 16-Pin Plastic SSOP, Body 4.9 x 3.9 mm, Pitch 0.635 mm; Supplier 1: Digi-Key; Supplier Part Number 1: LTC1473IGN#PBF-ND; Supplier 2: Newark; Supplier Part Number 2: 56M1465; RoHS: TRUE; Mounting Technology: Surface Mount; ComponentLink1Description: Manufacturer URL; ComponentLink1URL: http://www.linear.com/; ComponentLink2Description: Datasheet; ComponentLink2URL: http://cds.linear.com/docs/en/datasheet/1473fas.pdf; ComponentLink3Description: Package Specification; ComponentLink3URL: http://cds.linear.com/docs/en/packaging/05081641_B_GN16.pdf
footprint LT-GN-16_N (SOP, 16-Leads, Body 5x4mm, Pitch 0.635mm, IPC Medium Density)
footprint LT-GN-16_L (SOP, 16-Leads, Body 5x4mm, Pitch 0.635mm, IPC High Density)
footprint LT-GN-16_M (SOP, 16-Leads, Body 5x4mm, Pitch 0.635mm, IPC Low Density)
pins: 1 IN1 (in) "Logic Input of Gate Drivers GA1 and GB1. IN1 is disabled when IN2 is high or D\I\O\D\E\ is low.", 2 IN2 (in) "Logic Input of Gate Drivers GA2 and GB2. IN2 is disabled when IN1 is high or D\I\O\D\E\ is low.", 3 ~{DIODE} (in) ""2-Diode Mode" Logic Input. D\I\O\D\E\ overrides IN1 and IN2 by forcing the two back-to-back external N-channel MOSFET switches to mimic two diodes.", 4 TIMER (in) "Fault Timer. A capacitor connected from this pin to GND programs the time the MOSFET switches are allowed to be in current limit. To disable this function, Pin 4 can be grounded.", 5 V+ (power) "Power Supply. Bypass this pin with at least a 1uF capacitor.", 6 VGG (power) "Gate Driver Supply. This high voltage supply is intended only for driving the internal micropower gate drive circuitry. Do not load this pin with any external circuitry. Bypass this pin with at least 1uF.", 7 SW "Open Drain of an Internal N-Channel MOSFET Switch. This pin drives the bottom of the VGG switching regulator inductor which is connected between this pin and the V+ pin.", 8 GND (power) "Ground.", 9 GB2 (out) "Switch Gate Drivers. GA2 and GB2 drive the gates of the second back-to-back external N-channel switches.", 10 SAB2 (in) "Source Return. The SAB2 pin is connected to the sources of SW A2 and SW B2. A small pull-down current source returns this node to 0V when the switches are turned off.", 11 GA2 (out) "Switch Gate Drivers. GA2 and GB2 drive the gates of the second back-to-back external N-channel switches.", 12 SENSE- (in) "Inrush Current Input. This pin should be connected directly to the bottom (output side) of the low valued resistor in series with the two input power selector switch pairs, SW A1/B1 and SW A2/B2, for detecting and (See Datasheet)", 13 SENSE+ (in) "Inrush Current Input. This pin should be connected directly to the top (switch side) of the low valued resistor in series with the two input power selector switch pairs, SW A1/B1 and SW A2/B2, for detecting and controlling (See Datasheet)", 14 GB1 (out) "Switch Gate Drivers. GA1 and GB1 drive the gates of the first back-to-back external N-channel switches.", 15 SAB1 (in) "Source Return. The SAB1 pin is connected to the sources of SW A1 and SW B1. A small pull-down current source returns this node to 0V when the switches are turned off.", 16 GA1 (out) "Switch Gate Drivers. GA1 and GB1 drive the gates of the first back-to-back external N-channel switches."

## LTC1473IGN#TR
designator U?
Dual, High Gate Drive, 4.75 to 30 V Vin, 16-pin SOP (GN-16), -40 to 85 degC, Tape and Reel; Manufacturer: Linear Technology; PartNumber: LTC1473IGN#TR; Ideal Diode: Dual, External, N-Channel; DatasheetVersion: Rev. A; PackageVersion: Rev. B, 03/2012; PackageReference: GN-16; PackageDescription: 16-Pin Plastic SSOP, Body 4.9 x 3.9 mm, Pitch 0.635 mm; Supplier 1: Digi-Key; Supplier Part Number 1: LTC1473IGN#TR-ND; Packing: Tape and Reel; RoHS: FALSE; Mounting Technology: Surface Mount; ComponentLink1Description: Manufacturer URL; ComponentLink1URL: http://www.linear.com/; ComponentLink2Description: Datasheet; ComponentLink2URL: http://cds.linear.com/docs/en/datasheet/1473fas.pdf; ComponentLink3Description: Package Specification; ComponentLink3URL: http://cds.linear.com/docs/en/packaging/05081641_B_GN16.pdf
footprint LT-GN-16_N (SOP, 16-Leads, Body 5x4mm, Pitch 0.635mm, IPC Medium Density)
footprint LT-GN-16_L (SOP, 16-Leads, Body 5x4mm, Pitch 0.635mm, IPC High Density)
footprint LT-GN-16_M (SOP, 16-Leads, Body 5x4mm, Pitch 0.635mm, IPC Low Density)
pins: 1 IN1 (in) "Logic Input of Gate Drivers GA1 and GB1. IN1 is disabled when IN2 is high or D\I\O\D\E\ is low.", 2 IN2 (in) "Logic Input of Gate Drivers GA2 and GB2. IN2 is disabled when IN1 is high or D\I\O\D\E\ is low.", 3 ~{DIODE} (in) ""2-Diode Mode" Logic Input. D\I\O\D\E\ overrides IN1 and IN2 by forcing the two back-to-back external N-channel MOSFET switches to mimic two diodes.", 4 TIMER (in) "Fault Timer. A capacitor connected from this pin to GND programs the time the MOSFET switches are allowed to be in current limit. To disable this function, Pin 4 can be grounded.", 5 V+ (power) "Power Supply. Bypass this pin with at least a 1uF capacitor.", 6 VGG (power) "Gate Driver Supply. This high voltage supply is intended only for driving the internal micropower gate drive circuitry. Do not load this pin with any external circuitry. Bypass this pin with at least 1uF.", 7 SW "Open Drain of an Internal N-Channel MOSFET Switch. This pin drives the bottom of the VGG switching regulator inductor which is connected between this pin and the V+ pin.", 8 GND (power) "Ground.", 9 GB2 (out) "Switch Gate Drivers. GA2 and GB2 drive the gates of the second back-to-back external N-channel switches.", 10 SAB2 (in) "Source Return. The SAB2 pin is connected to the sources of SW A2 and SW B2. A small pull-down current source returns this node to 0V when the switches are turned off.", 11 GA2 (out) "Switch Gate Drivers. GA2 and GB2 drive the gates of the second back-to-back external N-channel switches.", 12 SENSE- (in) "Inrush Current Input. This pin should be connected directly to the bottom (output side) of the low valued resistor in series with the two input power selector switch pairs, SW A1/B1 and SW A2/B2, for detecting and (See Datasheet)", 13 SENSE+ (in) "Inrush Current Input. This pin should be connected directly to the top (switch side) of the low valued resistor in series with the two input power selector switch pairs, SW A1/B1 and SW A2/B2, for detecting and controlling (See Datasheet)", 14 GB1 (out) "Switch Gate Drivers. GA1 and GB1 drive the gates of the first back-to-back external N-channel switches.", 15 SAB1 (in) "Source Return. The SAB1 pin is connected to the sources of SW A1 and SW B1. A small pull-down current source returns this node to 0V when the switches are turned off.", 16 GA1 (out) "Switch Gate Drivers. GA1 and GB1 drive the gates of the first back-to-back external N-channel switches."